# EAGLE library part TLC393CP (library TLC393CP)
TLC393CP, Dual Comparator Open Drain 5 V 8-Pin PDIP Source: Datasheet <http://www.ti.com/lit/ds/symlink/tlc393.pdf>
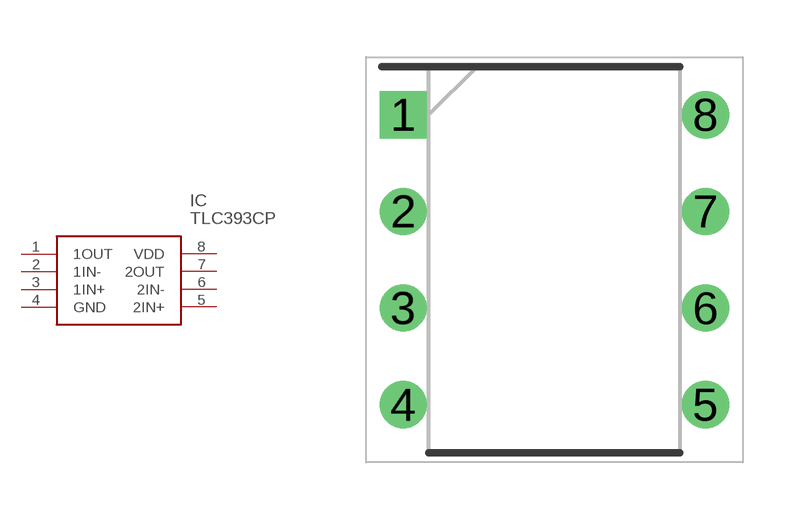
[diagram p0: symbol with the pads of DIP794W53P254L959H508Q8N; footprint DIP794W53P254L959H508Q8N]

Designator prefix IC

## TLC393CP (Arrow_Part_Number: TLC393CP; Arrow_Price-Stock: https://www.arrow.com/en/products/tlc393cp/texas-instruments; Description: TLC393CP, Dual Comparator Open Drain 5 V 8-Pin PDIP; Height: 5.08mm; Manufacturer_Name: Texas Instruments; Manufacturer_Part_Number: TLC393CP; Mouser_Part_Number: 595-TLC393CP; Mouser_Price-Stock: https://www.mouser.co.uk/ProductDetail/Texas-Instruments/TLC393CP?qs=6gY4t2uohMxW%2FGu1VKdA5A%3D%3D)  [DIP794W53P254L959H508Q8N]
1  1OUT
2  1IN-
3  1IN+
4  GND
5  2IN+
6  2IN-
7  2OUT
8  VDD

## Footprint DIP794W53P254L959H508Q8N (pad centres in mm)
P (R-PDIP-T8)
drill 0.73 pad 1.13 square: 1 -3.97,3.81
drill 0.73 pad 1.13: 2 -3.97,1.27; 3 -3.97,-1.27; 4 -3.97,-3.81; 5 3.97,-3.81; 6 3.97,-1.27; 7 3.97,1.27; 8 3.97,3.81